# Altium integrated library Linear Technology PMIC-Switching Reg LTC1174-LTC3901.IntLib: 2647 symbols (part 71 of 310)
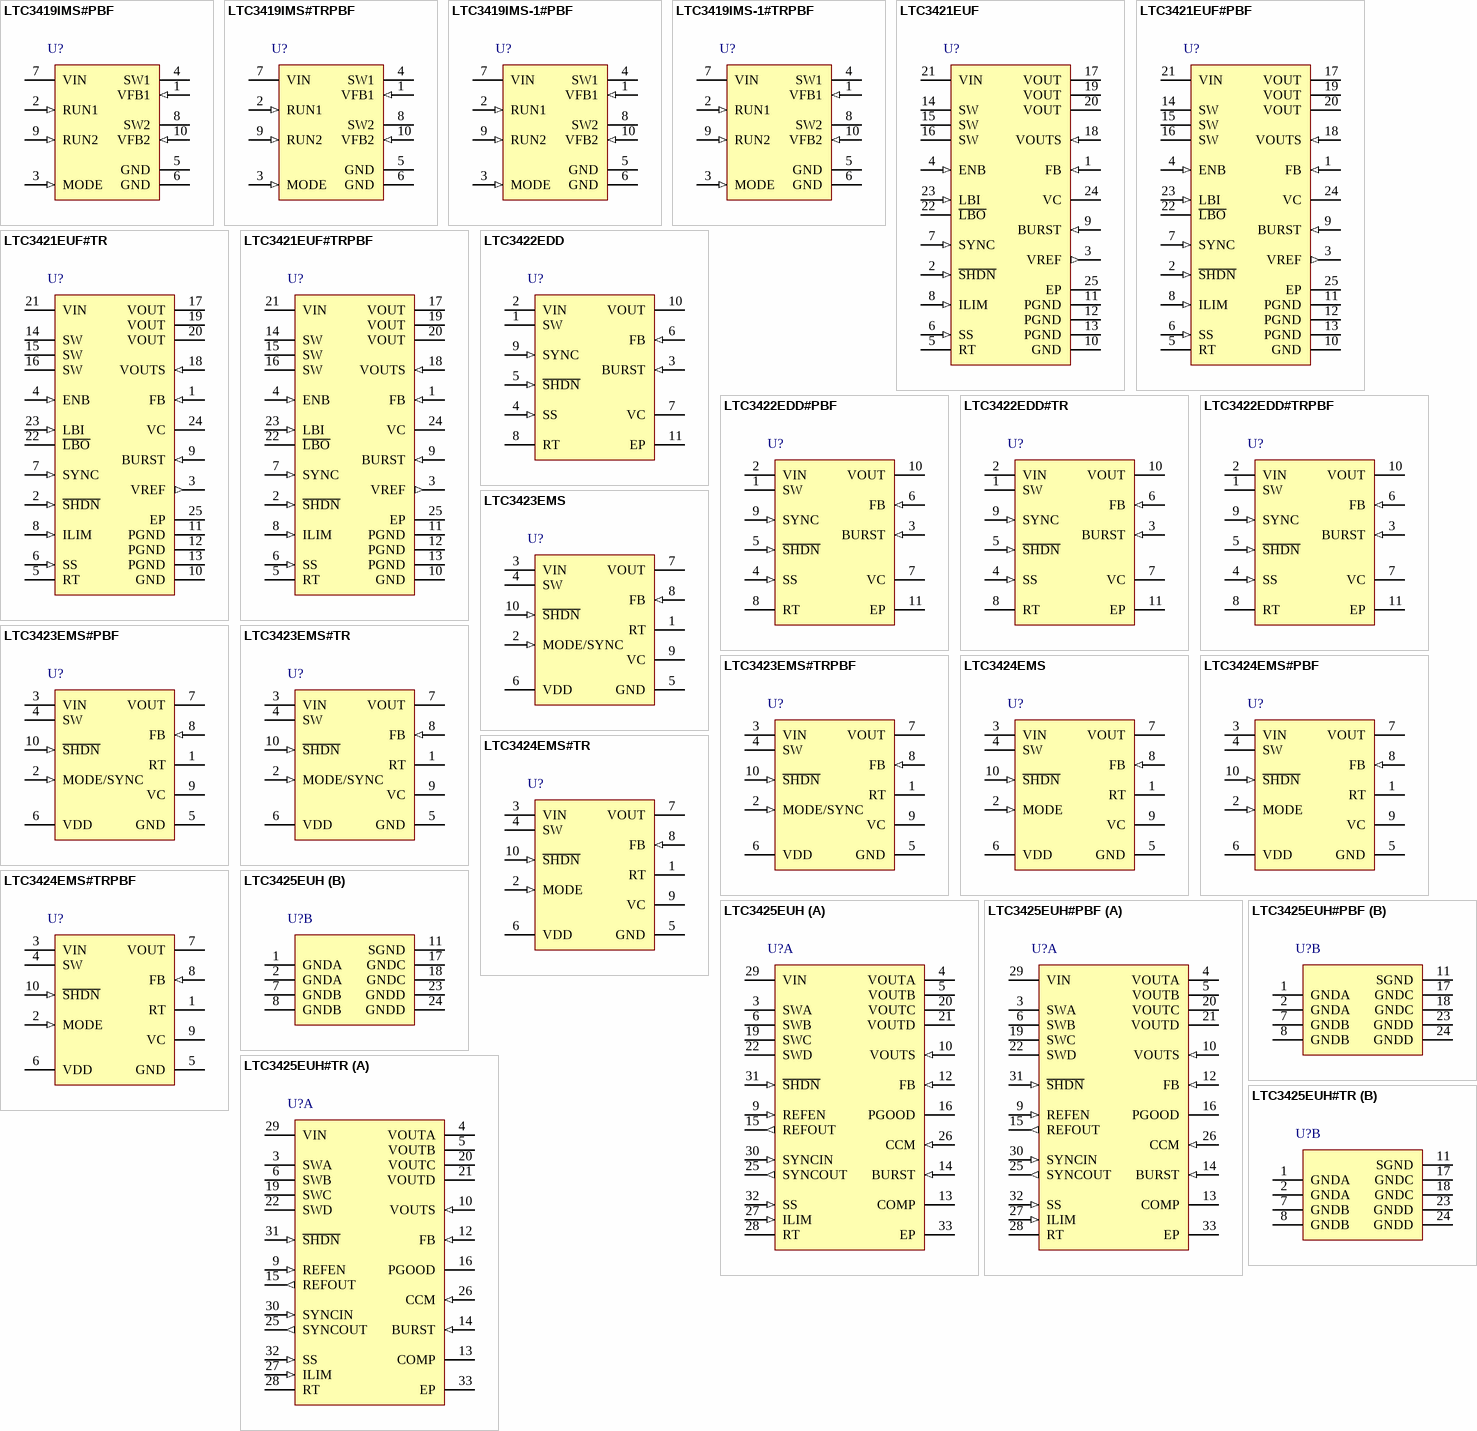
[diagram p256: symbols LTC3419IMS#PBF to LTC3425EUH#TR]

## LTC3421EUF#TR
designator U?
3A, 3MHz Micropower Synchronous Boost Converter with Output Disconnect, 24-pin QFN (UF-24), -40 to 85 degC, Tape and Reel; Manufacturer: Linear Technology; PartNumber: LTC3421EUF#TR; Number of Outputs: 1; PackageReference: UF24; PackageDescription: 24-Pin Plastic QFN, Body 4 x 4 mm, Pitch 0.5 mm; Supplier 1: Digi-Key; Supplier Part Number 1: LTC3421EUF#TR-ND; RoHS: FALSE; Code_JEDEC: MO-220
footprint LT-UF-24_N (QFN, 24-Leads, Body 4.1x4.1mm, Pitch 0.5mm, Thermal Pad 2.45x2.45mm, IPC Medium Density)
footprint LT-UF-24_L (QFN, 24-Leads, Body 4.1x4.1mm, Pitch 0.5mm, Thermal Pad 2.45x2.45mm, IPC High Density)
footprint LT-UF-24_M (QFN, 24-Leads, Body 4.1x4.1mm, Pitch 0.5mm, Thermal Pad 2.45x2.45mm, IPC Low Density)
pins: 1 FB (in) "Feedback Pin. Connect resistor divider tap here. The output voltage can be adjusted from 2.4V to 5.25V. The feedback reference voltage is typically 1.220V.", 2 ~{SHDN} (in) "Shutdown Pin. Less than 0.25V on this pin shuts down the IC. The IC is enabled when the S\H\D\N\ voltage is greater than 1V. Once VOUT is above 2.2V, hysteresis is applied to the pin (-500nA out of the pin) allowing it to (See Datasheet)", 3 VREF (out) "Buffered 1.22V Reference Output. This pin can source up to 100uA and sink up to 8uA. This pin must be decoupled with a 0.1uF capacitor for stability.", 4 ENB (in) "Reference Output (VREF) and Low-Battery Comparator Enable. When ENB = Low, the VREF output and low-battery comparator are disabled, which lowers the quiescent current by 5uA. When ENB = High, the VREF output and the (See Datasheet)", 5 RT "Connect a resistor to ground to program the oscillator frequency", 6 SS (in) "Soft-Start Pin. Connect a capacitor from this pin to ground to set the soft-start time", 7 SYNC (in) "Oscillator Synchronization Pin. A clock pulse width of 100ns to 2us is required to synchronize the internal oscillator. If not used SYNC should be grounded.", 8 ILIM (in) "Current Limit Adjust Pin. Connect a resistor from this pin to ground to set the peak current limit threshold for the N-channel MOSFET", 9 BURST (in) "Burst Mode Threshold Adjust Pin. A resistor/capacitor combination from this pin to ground programs the average load current at which automatic Burst Mode operation is entered", 10 GND (power) "Signal Ground Pin. Connect to ground plane near the RT resistor, error amp compensation components and feedback divider.", 11 PGND (power) "Source Terminal of Power Internal N-Channel MOSFET.", 12 PGND (power) "Source Terminal of Power Internal N-Channel MOSFET.", 13 PGND (power) "Source Terminal of Power Internal N-Channel MOSFET.", 14 SW "Switch Pin for Inductor Connection. For applications where VOUT > 4.3V, a Schottky diode from SW to VOUT or to a snubber circuit is required to maintain absolute maximum rating for SW. (see Application Circuits for 5V).", 15 SW "Switch Pin for Inductor Connection. For applications where VOUT > 4.3V, a Schottky diode from SW to VOUT or to a snubber circuit is required to maintain absolute maximum rating for SW. (see Application Circuits for 5V).", 16 SW "Switch Pin for Inductor Connection. For applications where VOUT > 4.3V, a Schottky diode from SW to VOUT or to a snubber circuit is required to maintain absolute maximum rating for SW. (see Application Circuits for 5V).", 17 VOUT (power) "The output of the synchronous rectifier and bootstrapped power source for the IC. A ceramic bypass capacitor is required to be very close to the VOUT and PGND pins of the IC.", 18 VOUTS (in) "VOUT Sense Pin. Connect VOUTS directly to an output filter capacitor. The top of the feedback divider network should also be tied to this point.", 19 VOUT (power) "The output of the synchronous rectifier and bootstrapped power source for the IC. A ceramic bypass capacitor is required to be very close to the VOUT and PGND pins of the IC.", 20 VOUT (power) "The output of the synchronous rectifier and bootstrapped power source for the IC. A ceramic bypass capacitor is required to be very close to the VOUT and PGND pins of the IC.", 21 VIN (power) "Input Supply Pin. Connect this pin to the input supply and decouple with at least a 4.7uF ceramic capacitor.", 22 ~{LBO} (oc) "Open-Drain Output. This pin pulls low when the LBI input is below 0.6V. The open-drain output can sink up to 20mA. During Burst Mode operation L\B\O\ is only active during the time the IC wakes up to service the output.", 23 LBI (in) "Low-Battery Comparator Input. Typical threshold voltage is 0.6V with 30mV hysteresis. This function is enabled when the ENB pin is high. The lowbattery comparator will operate off VIN or VOUT, whichever is greater.", 24 VC "Error Amp Output. A frequency compensation network is connected from this pin to ground to compensate the loop. See the section Compensating the Feedback Loop for guidelines.", 25 EP (power) "Ground. This pin must be soldered to the PCB and is typically connected through the power GND plane."